# Altium schematic symbol library SMPS_LM2576-ADJ.Schlib: 1 symbol
Pins are listed as number, name and electrical type; pins without a type are passive.

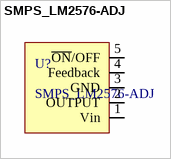
[diagram p0: symbol SMPS_LM2576-ADJ]

## SMPS_LM2576-ADJ
designator U?
IC REG BUCK ADJ 3A
footprint TO220-5-STAGGERED
footprint TO220-5-STAGGERED_JACKETED
pins: 1 Vin, 2 OUTPUT, 3 GND, 4 Feedback, 5 ~{ON}/OFF